# Altium schematic symbol library 8A34002E-000NLG.SchLib: 2 symbols
Pins are listed as number, name and electrical type; pins without a type are passive.

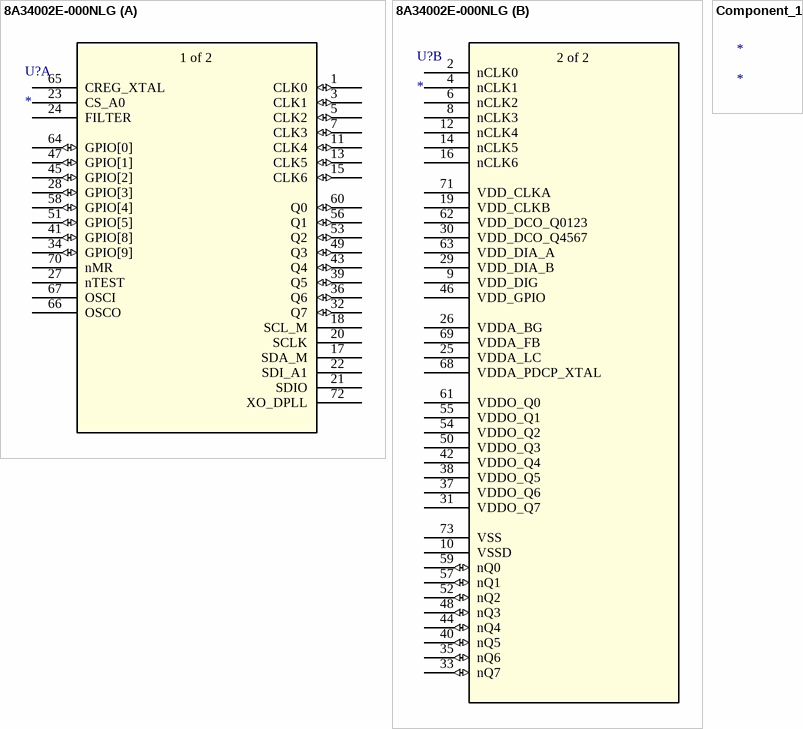
[diagram p0: symbols 8A34002E-000NLG to Component_1]

## 8A34002E-000NLG
designator U?
No Description Available; Mfr_Name: Renesas Electronics; RefDes: RefDes; Type: Type
footprint QFN_2E-000NLG_REN
part A pins: 1 CLK0 (io), 3 CLK1 (io), 5 CLK2 (io), 7 CLK3 (io), 11 CLK4 (io), 13 CLK5 (io), 15 CLK6 (io), 17 SDA_M, 18 SCL_M, 20 SCLK, 21 SDIO, 22 SDI_A1, 23 CS_A0, 24 FILTER, 27 nTEST, 28 GPIO[3] (io), 32 Q7 (io), 34 GPIO[9] (io), 36 Q6 (io), 39 Q5 (io), 41 GPIO[8] (io), 43 Q4 (io), 45 GPIO[2] (io), 47 GPIO[1] (io), 49 Q3 (io), 51 GPIO[5] (io), 53 Q2 (io), 56 Q1 (io), 58 GPIO[4] (io), 60 Q0 (io), 64 GPIO[0] (io), 65 CREG_XTAL, 66 OSCO, 67 OSCI, 70 nMR, 72 XO_DPLL
part B pins: 2 nCLK0, 4 nCLK1, 6 nCLK2, 8 nCLK3, 9 VDD_DIG (power), 10 VSSD (power), 12 nCLK4, 14 nCLK5, 16 nCLK6, 19 VDD_CLKB (power), 25 VDDA_LC (power), 26 VDDA_BG (power), 29 VDD_DIA_B (power), 30 VDD_DCO_Q4567 (power), 31 VDDO_Q7 (power), 33 nQ7 (io), 35 nQ6 (io), 37 VDDO_Q6 (power), 38 VDDO_Q5 (power), 40 nQ5 (io), 42 VDDO_Q4 (power), 44 nQ4 (io), 46 VDD_GPIO (power), 48 nQ3 (io), 50 VDDO_Q3 (power), 52 nQ2 (io), 54 VDDO_Q2 (power), 55 VDDO_Q1 (power), 57 nQ1 (io), 59 nQ0 (io), 61 VDDO_Q0 (power), 62 VDD_DCO_Q0123 (power), 63 VDD_DIA_A (power), 68 VDDA_PDCP_XTAL (power), 69 VDDA_FB (power), 71 VDD_CLKA (power), 73 VSS (power)
part A text: 1 of 2
part B text: 2 of 2

## Component_1
designator *